# Altium footprint library Fiducial-1.5mm.PcbLib: 1 footprints
Each footprint in its own frame and in the unit in brackets; x right, y up, seen from the top. Pads: shape width x height; smd on the part's side, far side on the other; paste and mask are expansions set on the pad; w line width, h text height; cw(c..) or ccw(c..) is an arc to the next point about the centre after c.
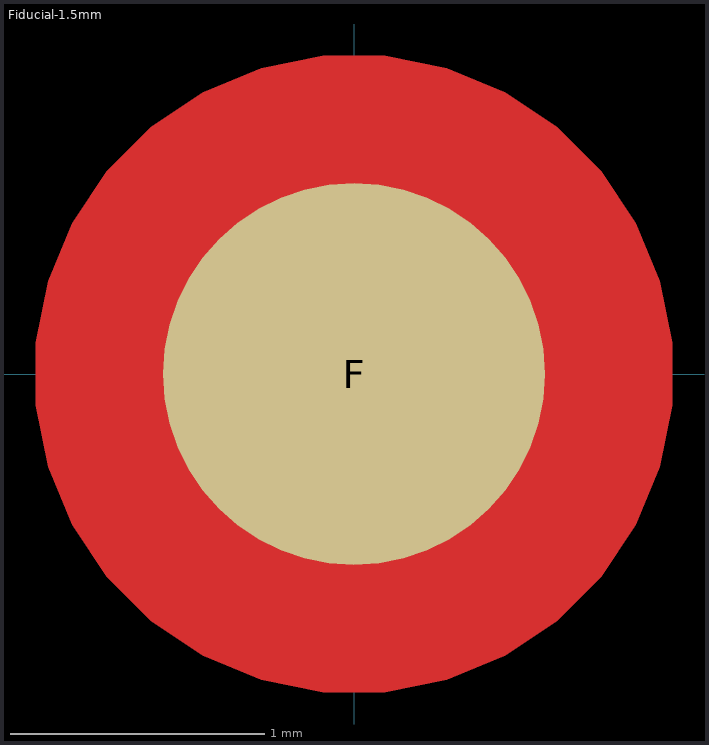
[diagram p0: the footprint, top view; thin cyan lines are the x and y axes]

## Fiducial-1.5mm [mm]
pads (1):
  round 1.5 smd paste-1 mask+0.5: F(0,0)
Top Layer:
  pour cut-out: 0,0
  pour cut-out: -1.25,0 -1.25,0.123 -1.202,0.365 -1.108,0.592 -0.971,0.797 -0.797,0.971 -0.592,1.108 -0.365,1.202 -0.123,1.25 0,1.25 0.123,1.25 0.365,1.202 0.592,1.108 0.797,0.971 0.971,0.797 1.108,0.592 1.202,0.365 1.25,0.123 1.25,0 1.25,-0.123 1.202,-0.365 1.108,-0.592 0.971,-0.797 0.797,-0.971 0.592,-1.108 0.365,-1.202 0.123,-1.25 0,-1.25 -0.123,-1.25 -0.365,-1.202 -0.592,-1.108 -0.797,-0.971 -0.971,-0.797 -1.108,-0.592 -1.202,-0.365 -1.25,-0.123